# Altium schematic symbol library Schlib1.SchLib: 1 symbol
Pins are listed as number, name and electrical type; pins without a type are passive.

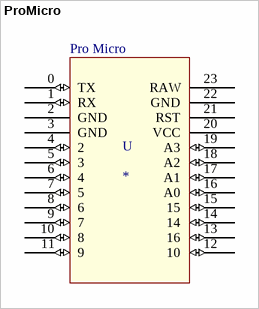
[diagram p0: symbol ProMicro]

## ProMicro
designator U
pins: 0 TX (io), 1 RX (io), 2 GND (power), 3 GND (power), 4 2 (io), 5 3 (io), 6 4 (io), 7 5 (io), 8 6 (io), 9 7 (io), 10 8 (io), 11 9 (io), 12 10 (io), 13 16 (io), 14 (io), 15 (io), 16 A0 (io), 17 A1 (io), 18 A2 (io), 19 A3 (io), 20 VCC (power), 21 RST (power), 22 GND (power), 23 RAW (power)
text: Pro Micro